# Altium footprint library buzzer.PcbLib: 1 footprints
Each footprint in its own frame and in the unit in brackets; x right, y up, seen from the top. Pads: shape width x height; smd on the part's side, far side on the other; paste and mask are expansions set on the pad; w line width, h text height; cw(c..) or ccw(c..) is an arc to the next point about the centre after c.
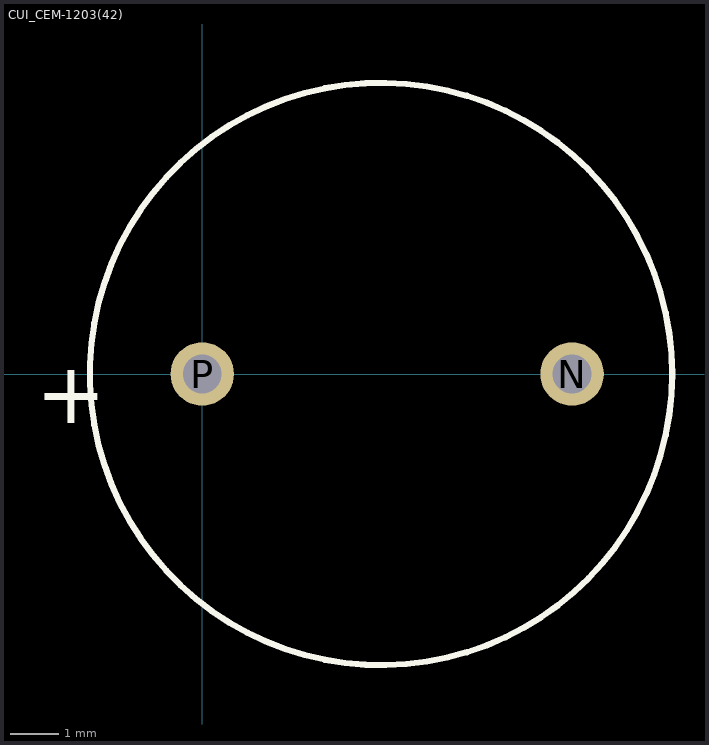
[diagram p0: the footprint, top view; thin cyan lines are the x and y axes]

## CUI_CEM-1203(42) [mm]
pads (2):
  round 1.308 hole 0.8: N(7.62,0) P(0,0)
Top Overlay:
  circle w0.127: c3.683,0 r6
  text "+" at -3.429,-1.016 h1.27